# Altium footprint library ps5xxx.PcbLib: 1 footprints
Each footprint in its own frame and in the unit in brackets; x right, y up, seen from the top. Pads: shape width x height; smd on the part's side, far side on the other; paste and mask are expansions set on the pad; w line width, h text height; cw(c..) or ccw(c..) is an arc to the next point about the centre after c.
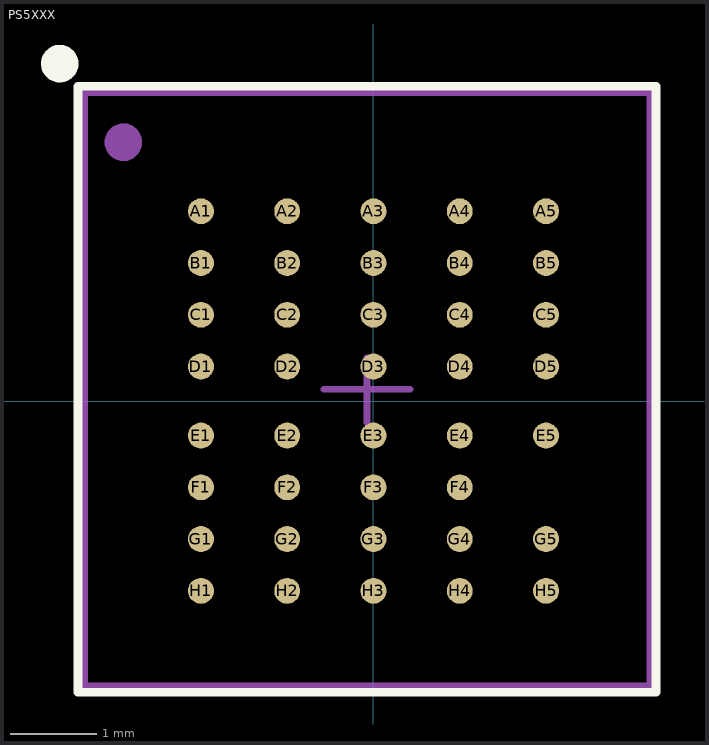
[diagram p0: the footprint, top view; thin cyan lines are the x and y axes]

## PS5XXX [mm]
pads (39):
  round 0.3 smd mask+0.051: A1(-2,2.2) A2(-1,2.2) A3(0,2.2) A4(1,2.2) A5(2,2.2) B1(-2,1.6) B2(-1,1.6) B3(0,1.6) B4(1,1.6) B5(2,1.6) C1(-2,1) C2(-1,1) C3(0,1) C4(1,1) C5(2,1) D1(-2,0.4) D2(-1,0.4) D3(0,0.4) D4(1,0.4) D5(2,0.4) E1(-2,-0.4) E2(-1,-0.4) E3(0,-0.4) E4(1,-0.4) E5(2,-0.4) F1(-2,-1) F2(-1,-1) F3(0,-1) F4(1,-1) G1(-2,-1.6) G2(-1,-1.6) G3(0,-1.6) G4(1,-1.6) G5(2,-1.6) H1(-2,-2.2) H2(-1,-2.2) H3(0,-2.2) H4(1,-2.2) H5(2,-2.2)
Top Overlay:
  circle w0.254: c-3.637,3.912 r0.09
  lines w0.1: -3.425,-3.375 3.275,-3.375 3.275,3.65 -3.425,3.65 -3.425,-3.375
Top 3D Body (Mech13):
  circle w0.254: c-2.9,3 r0.09
  lines w0.076: -0.575,0.137 -0.075,0.137 ; -0.075,-0.25 -0.075,0.137 ; -0.075,0.5 -0.075,0.137 ; 0.425,0.137 -0.075,0.137 ; -3.35,-3.3 3.2,-3.3 3.2,3.575 -3.35,3.575 -3.35,-3.3
  text ".designator" at -2.4,-2.95 h0.64
3D body: height 0.82, standoff 0, extent -3.35,-3.3 3.2,3.575